# EAGLE library part FRONTBOARDCONNECTOR (library eagleexample)
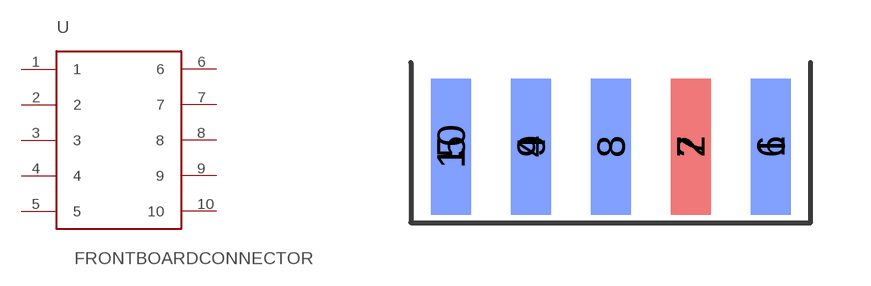
[diagram p0: symbol with the pads of FRONTBOARDCONNECTOR; footprint FRONTBOARDCONNECTOR]

Designator prefix -

## FRONTBOARDCONNECTOR  [FRONTBOARDCONNECTOR]
1  1
2  2
3  3
4  4
5  5
6  6
7  7
8  8
9  9
10  10

## Footprint FRONTBOARDCONNECTOR (pad centres in mm)
smd 1 x 3.4: 1 4,0.4; 2 2,0.4; 3 0,0.4; 4 -2,0.4; 5 -4,0.4
smd 1 x 3.4 bottom: 6 4,0.4; 7 2,0.4; 8 0,0.4; 9 -2,0.4; 10 -4,0.4